# Altium schematic symbol library Hw_Lib.SchLib: 55 symbols (part 1 of 2)
Pins are listed as number, name and electrical type; pins without a type are passive.

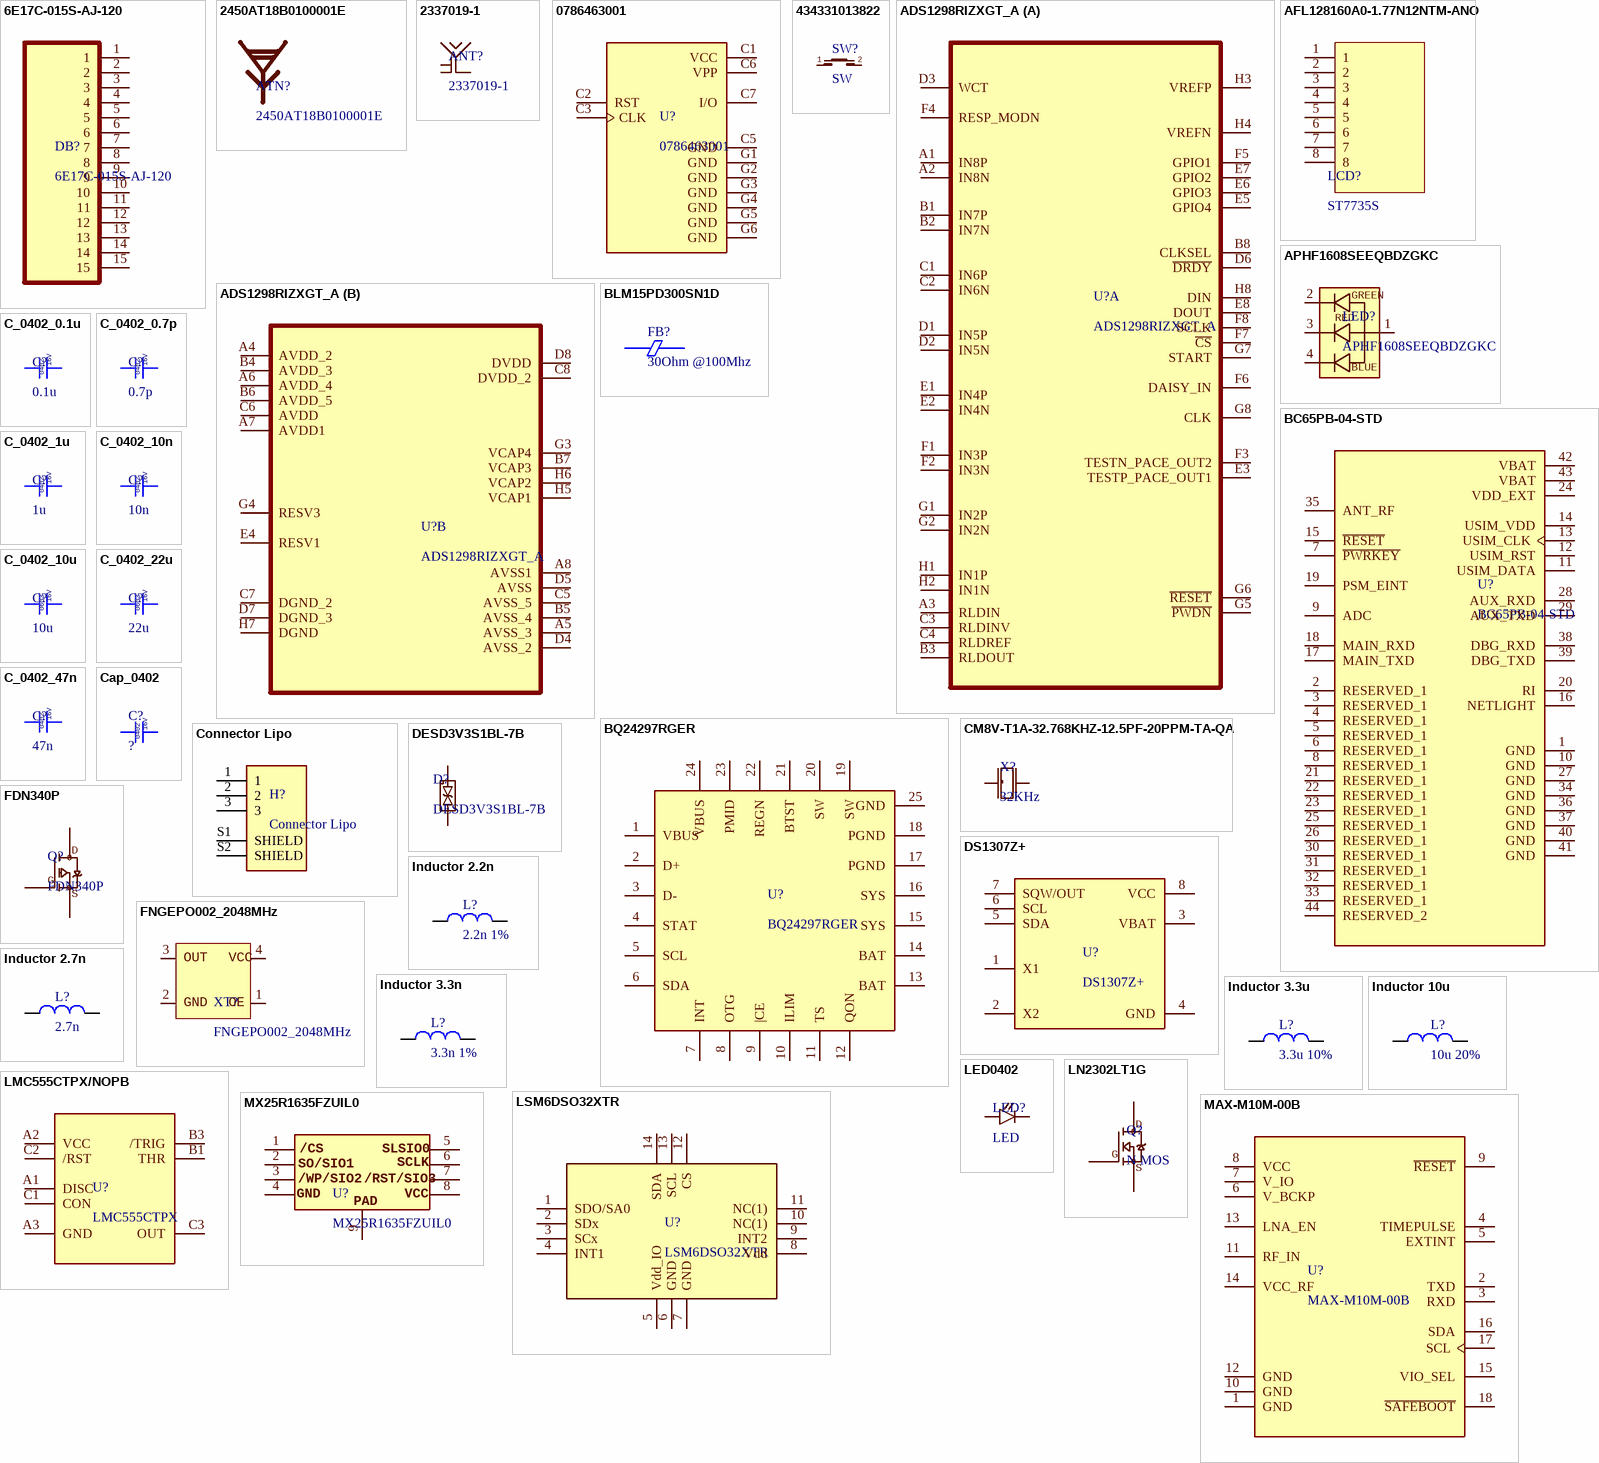
[diagram p0: symbols 6E17C-015S-AJ-120 to MX25R1635FZUIL0]

## 6E17C-015S-AJ-120
designator DB?
Conn D-Subminiature SKT 15 POS 2.74mm Solder RA Thru-Hole 15 Terminal 1 Port; Manufacturer: Amphenol Communications Solutions; Manufacturer Part Number: 6E17C015SAJ120; Supplier 1: Digikey; Supplier Part Number 1: 6E17C-015S-AJ-120-ND; Supplier: Digikey; Supplier Part Number: 6E17C-015S-AJ-120-ND; RoHS: No; Category: D-Sub Connectors; Stock: 1673; Pricing: 1=7.56, 10=6.839, 25=6.4604, 50=6.303, 100=5.9879, 250=5.35756, 450=5.0424, 950=4.41211 (USD)
footprint 6E17C-015S-AJ-120 (15 Position D-Sub Receptacle, Female Sockets Connector)
pins: 1, 2, 3, 4, 5, 6, 7, 8, 9, 10, 11, 12, 13, 14, 15

## 2450AT18B0100001E
designator ATN?
Rf Ant 2.4GHZ Chip Solder SMD; Manufacturer: Johanson; Supplier 1: Digikey; Supplier Part Number 1: 712-2450AT18B0100001ECT-ND; Supplier: Digikey; Supplier Part Number: 712-2450AT18B0100001ECT-ND; Manufacturer Part Number: 2450AT18B0100001E; RoHS: No; Category: RF Antennas; Stock: 16167; Pricing: 1=1.02, 10=0.637, 25=0.534, 100=0.4175, 250=0.36032, 500=0.32526, 1000=0.29604 (USD)
footprint 2450AT18B0100001E
pins: 1

## 2337019-1
designator ANT?
RF Connector, 1 Contact(s), Male, Board Mount, Receptacle; Manufacturer: TE Connectivity; Supplier 1: Digikey; Supplier Part Number 1: A144746CT-ND; Supplier: Digikey; Supplier Part Number: A144746CT-ND; Manufacturer Part Number: 2337019-1; RoHS: Yes; Category: RF / Coaxial Connectors; Stock: 77957; Pricing: 1=0.23, 10=0.196, 25=0.1828, 50=0.1732, 100=0.1638, 250=0.15252, 500=0.14374, 1000=0.13621, 2500=0.12617 (USD); ComponentLink1URL: https://datasheet.ciiva.com:443/pdfs/VipMasterIC/IC/TYEL/TYEL-S-A0008124473/TYEL-S-A0008124473-1.pdf?src-supplier=IHS+Markit; ComponentLink1Description: https://datasheet.ciiva.com:443/pdfs/VipMasterIC/IC/TYEL/TYEL-S-A0008124473/TYEL-S-A0008124473-1.pdf?src-supplier=IHS+Markit; ComponentLink2URL: https://www.te.com/commerce/DocumentDelivery/DDEController?Action=srchrtrv&amp;DocNm=C-2337019&amp;DocType=Customer+Drawing&amp;DocLang=English&src-supplier=Digikey; ComponentLink2Description: https://www.te.com/commerce/DocumentDelivery/DDEController?Action=srchrtrv&amp;DocNm=C-2337019&amp;DocType=Customer+Drawing&amp;DocLang=English&src-supplier=Digikey
footprint 2337019-1 (U.FL (UMCC) Connector Receptacle, Male Pin 50 Ohms Surface Mount Solder)
pins: 1, G1 GND (oc), G2 GND (oc)

## 0786463001
designator U?
PCB Connector; Manufacturer: Molex; Manufacturer Series: 78646; Supplier: Digikey; Supplier Part Number: WM9364CT-ND; Manufacturer Part Number: 0786463001; RoHS: Yes; Stock: 215355; Pricing: 1=0.89, 10=0.737, 100=0.6142 (USD); Contact Finish - Mating: NOT SPECIFIED; Connector Type: PCB; Reach SVHC Compliant: Yes; RoHS Compliant: Yes; ComponentLink1URL: https://datasheet.ciiva.com:443/pdfs/VipMasterIC/IC/MOLE/MOLE-S-A0006767587/MOLE-S-A0006867848-1.pdf?src-supplier=IHS+Markit; ComponentLink1Description: https://datasheet.ciiva.com:443/pdfs/VipMasterIC/IC/MOLE/MOLE-S-A0006767587/MOLE-S-A0006867848-1.pdf?src-supplier=IHS+Markit; Supplier 1: Digikey; Supplier Part Number 1: WM9364CT-ND
footprint 0786463001 (6 Position Card Connector Micro SIM Surface Mount, Right Angle Gold)
pins: C1 VCC (oc), C2 RST (oc), C3 CLK (oc), C5 GND (oc), C6 VPP (oc), C7 I/O (oc), G1 GND (oc), G2 GND (oc), G3 GND (oc), G4 GND (oc), G5 GND (oc), G6 GND (oc)

## 434331013822
designator SW?, comment SW
Keypad Switch, 1 Switches, SPST, Momentary-tactile, 0.05A, 12VDC, 2.94N, Solder Terminal, Surface Mount-right Angle; Manufacturer: Wurth Electronics; Manufacturer Part Number: 434331013822; Actuator Type: STEM; Circuit Configuration: 1X1; Contact Bounce Time-Max: 10ms; Contact Current(DC)-Max: 50mA; Contact DC Max Rating R Load: .05A@12VDC; Contact Voltage(DC)-Max: 12V; Number of Switches: 1; Body Breadth: 2.9inch; Body Height: 1.35mm; Body Length or Diameter: 3.5mm; Supplier 1: Digikey; Supplier Part Number 1: 732-10144-1-ND; Supplier: Digikey; Supplier Part Number: 732-10144-1-ND; RoHS: Yes; Category: Tactile Switches; Stock: 20409; Pricing: 1=0.62, 100=0.527, 500=0.453, 1000=0.38 (USD); Mounting Technology: Surface Mount; Min Operating Temperature: -40°C; Max Operating Temperature: 85°C; Operating Force-Max: 2.94N; Packaging: Tape and Reel; Switch Action: MOMENTARY-TACTILE; Switch Function: SPST; Switch Type: Keypad; Termination: Solder; Reach SVHC Compliant: Yes; RoHS Compliant: No; ComponentLink1URL: https://datasheet.ciiva.com:443/pdfs/VipMasterIC/IC/MIDC/MIDC-S-A0007332294/MIDC-S-A0007332282-1.pdf?src-supplier=IHS+Markit; ComponentLink1Description: https://datasheet.ciiva.com:443/pdfs/VipMasterIC/IC/MIDC/MIDC-S-A0007332294/MIDC-S-A0007332282-1.pdf?src-supplier=IHS+Markit; ComponentLink2URL: https://katalog.we-online.de/em/datasheet/434331013822.pdf?src-supplier=Digikey; ComponentLink2Description: https://katalog.we-online.de/em/datasheet/434331013822.pdf?src-supplier=Digikey
footprint 434331013822
pins: 1, 2

## ADS1298RIZXGT_A
designator U?
Analog Circuit, 1 Func, 8 Channel, PBGA64; Manufacturer: Texas Instruments; Package Body Material: Plastic; Channels: 1; Max Supply Voltage: 5.25V; Min Supply Voltage: 2.7V; Nominal Supply Voltage: 3V; Qualification Status: Not Qualified; Supplier 1: Digikey; Supplier Part Number 1: 4823-NRF5340-CLAA-RCT-ND; Supplier: Digikey; Supplier Part Number: 296-28273-1-ND; Manufacturer Part Number: ADS1298RIZXGT; RoHS: Yes; Category: Analog to Digital Converters (ADCs); Stock: 126; Pricing: 1=44.11, 10=33.755, 25=31.1068, 100=28.1554 (USD); Case/Package: LFBGA; Pins: 64; Package Shape: Square; Terminal Finish: Copper; Min Operating Temperature: -40°C; Max Operating Temperature: 85°C; JESD-609 Code: e1; Throw Configuration: ANALOG CIRCUIT; Moisture Sensitivity Level: 3; Package Style: GRID ARRAY, LOW PROFILE, FINE PITCHMeter; Peak Reflow Temperature (Cel): 260°C; Surface Mount: Yes; Terminal Form: Ball; Terminal Position: BOTTOM; Length: 8mm; Width: 8mm; Height - Seated (Max): 1.45mm; Terminal Pitch: 0.8mm; Temperature Grade: INDUSTRIAL; Reach SVHC Compliant: Yes; RoHS Compliant: Yes; ComponentLink1URL: https://www.ti.com:443/lit/ds/symlink/ads1294.pdf?src-supplier=IHS+Markit; ComponentLink1Description: https://www.ti.com:443/lit/ds/symlink/ads1294.pdf?src-supplier=IHS+Markit; ComponentLink2URL: https://datasheet.ciiva.com/1254/ads1294r-1254022.pdf?src-supplier=Digikey; ComponentLink2Description: https://datasheet.ciiva.com/1254/ads1294r-1254022.pdf?src-supplier=Digikey; ComponentLink3URL: https://datasheet.ciiva.com/1254/ads1294r-1254023.pdf?src-supplier=Digikey; ComponentLink3Description: https://datasheet.ciiva.com/1254/ads1294r-1254023.pdf?src-supplier=Digikey; ComponentLink4URL: https://datasheet.ciiva.com/1254/ads1294r-1254024.pdf?src-supplier=Digikey; ComponentLink4Description: https://datasheet.ciiva.com/1254/ads1294r-1254024.pdf?src-supplier=Digikey; ComponentLink5URL: https://datasheet.ciiva.com/5777/ads1296-5777151.pdf?src-supplier=Farnell; ComponentLink5Description: https://datasheet.ciiva.com/5777/ads1296-5777151.pdf?src-supplier=Farnell; ComponentLink6URL: https://datasheet.ciiva.com/7988/1796012-7988957.pdf?src-supplier=Element14; ComponentLink6Description: https://datasheet.ciiva.com/7988/1796012-7988957.pdf?src-supplier=Element14; ComponentLink7URL: https://datasheet.ciiva.com/15151/getdatasheetpartid-324164-15151959.pdf?src-supplier=Verical; ComponentLink7Description: https://datasheet.ciiva.com/15151/getdatasheetpartid-324164-15151959.pdf?src-supplier=Verical
footprint ADS1298RIZXGT (8 Channel AFE 24 Bit 14.1 mW 64-NFBGA (8x8))
part A pins: A1 IN8P (oc), A2 IN8N (oc), A3 RLDIN (oc), B1 IN7P (oc), B2 IN7N (oc), B3 RLDOUT (oc), B8 CLKSEL (oc), C1 IN6P (oc), C2 IN6N (oc), C3 RLDINV (oc), C4 RLDREF (oc), D1 IN5P (oc), D2 IN5N (oc), D3 WCT (oc), D6 ~{DRDY} (oc), E1 IN4P (oc), E2 IN4N (oc), E3 TESTP_PACE_OUT1 (oc), E5 GPIO4 (oc), E6 GPIO3 (oc), E7 GPIO2 (oc), E8 DOUT (oc), F1 IN3P (oc), F2 IN3N (oc), F3 TESTN_PACE_OUT2 (oc), F4 RESP_MODN (oc), F5 GPIO1 (oc), F6 DAISY_IN (oc), F7 ~{CS} (oc), F8 SCLK (oc), G1 IN2P (oc), G2 IN2N (oc), G5 ~{PWDN} (oc), G6 ~{RESET} (oc), G7 START (oc), G8 CLK (oc), H1 IN1P (oc), H2 IN1N (oc), H3 VREFP (oc), H4 VREFN (oc), H8 DIN (oc)
part B pins: A4 AVDD_2 (oc), A5 AVSS_3 (oc), A6 AVDD_4 (oc), A7 AVDD1 (oc), A8 AVSS1 (oc), B4 AVDD_3 (oc), B5 AVSS_4 (oc), B6 AVDD_5 (oc), B7 VCAP3 (oc), C5 AVSS_5 (oc), C6 AVDD (oc), C7 DGND_2 (oc), C8 DVDD_2 (oc), D4 AVSS_2 (oc), D5 AVSS (oc), D7 DGND_3 (oc), D8 DVDD (oc), E4 RESV1 (oc), G3 VCAP4 (oc), G4 RESV3 (oc), H5 VCAP1 (oc), H6 VCAP2 (oc), H7 DGND (oc)

## AFL128160A0-1.77N12NTM-ANO
designator LCD?, comment ST7735S
1.77'' Arduino Tn Tft 128160 Spi; Manufacturer: Orient; Manufacturer Part Number: AFL128160A0-1.77N12NTM-ANO; Supplier 1: Digikey; Supplier Part Number 1: 5491-AFL128160A0-1.77N12NTM-ANO-ND; Supplier: Digikey; Supplier Part Number: 5491-AFL128160A0-1.77N12NTM-ANO-ND; RoHS: No; Category: Optoelectronics; Stock: 5; Pricing: 1=12.86, 10=9.704, 100=8.151, 500=7.48562, 1000=7.06975 (USD)
pins: 1, 2, 3, 4, 5, 6, 7, 8

## APHF1608SEEQBDZGKC
designator LED?
Triple Color LED, Hyper Red/green/blue, Water Clear, 1.6mm; Manufacturer: Kingbright; Supplier 1: Digikey; Supplier Part Number 1: 754-2144-1-ND; Supplier 2: Digikey; Supplier Part Number 2: 754-2144-2-ND; Supplier: Mouser; Supplier Part Number: 604-APHF1608QBDZGKC; Manufacturer Part Number: APHF1608SEEQBDZGKC; RoHS: Yes; Category: LEDs; Stock: 1314; Pricing: 1=0.68, 10=0.444, 50=0.444, 100=0.291, 1000=0.221, 10000=0.209 (USD); Optoelectronic Device Type: TRIPLE COLOR LED; Reach SVHC Compliant: Yes; RoHS Compliant: Yes; ComponentLink1URL: https://datasheet.ciiva.com:443/pdfs/VipMasterIC/IC/KBEC/KBEC-S-A0008947180/KBEC-S-A0008953389-1.pdf?src-supplier=IHS+Markit; ComponentLink1Description: https://datasheet.ciiva.com:443/pdfs/VipMasterIC/IC/KBEC/KBEC-S-A0008947180/KBEC-S-A0008953389-1.pdf?src-supplier=IHS+Markit; ComponentLink2URL: http://www.kingbrightusa.com/images/catalog/SPEC/APHF1608SEEQBDZGKC.pdf?src-supplier=Digikey; ComponentLink2Description: http://www.kingbrightusa.com/images/catalog/SPEC/APHF1608SEEQBDZGKC.pdf?src-supplier=Digikey
footprint APHF1608SEEQBDZGKC
pins: 1 (oc), 2 (oc), 3 (oc), 4 (oc)
text: GREEN; RED; BLUE

## BC65PB-04-STD
designator U?
Compact NB-IoT Module with Ultra-low Power Consumption for Quectel GSM/GPRS M66/NB-IoT BC66/BC66-NA/BC68 LCC; Manufacturer: Quectel Wireless Solutions; Supplier: Digikey; Supplier Part Number: 2958-BC65PB-04-STDCT-ND; Manufacturer Part Number: BC65PB-04-STD; RoHS: No; Stock: 1260; Pricing: 1=8.4, 10=7.7, 25=7, 100=6.3 (USD); ComponentLink1URL: https://datasheet.octopart.com/BC65PB-04-STD-Quectel-datasheet-163886004.pdf?src-supplier=SOS+electronic; ComponentLink1Description: https://datasheet.octopart.com/BC65PB-04-STD-Quectel-datasheet-163886004.pdf?src-supplier=SOS+electronic; Supplier 1: Digikey; Supplier Part Number 1: 2958-BC65PB-04-STDCT-ND
footprint BC65PB-04-STD (Cellular GPRS, GSM, LTE Transceiver Module Antenna Not Included Surface Mount)
pins: 1 GND (oc), 2 RESERVED_1 (oc), 3 RESERVED_1 (oc), 4 RESERVED_1 (oc), 5 RESERVED_1 (oc), 6 RESERVED_1 (oc), 7 ~{PWRKEY} (oc), 8 RESERVED_1 (oc), 9 ADC (oc), 10 GND (oc), 11 USIM_DATA (oc), 12 USIM_RST (oc), 13 USIM_CLK (oc), 14 USIM_VDD (oc), 15 ~{RESET} (oc), 16 NETLIGHT (oc), 17 MAIN_TXD (oc), 18 MAIN_RXD (oc), 19 PSM_EINT (oc), 20 RI (oc), 21 RESERVED_1 (oc), 22 RESERVED_1 (oc), 23 RESERVED_1 (oc), 24 VDD_EXT (oc), 25 RESERVED_1 (oc), 26 RESERVED_1 (oc), 27 GND (oc), 28 AUX_RXD (oc), 29 AUX_TXD (oc), 30 RESERVED_1 (oc), 31 RESERVED_1 (oc), 32 RESERVED_1 (oc), 33 RESERVED_1 (oc), 34 GND (oc), 35 ANT_RF (oc), 36 GND (oc), 37 GND (oc), 38 DBG_RXD (oc), 39 DBG_TXD (oc), 40 GND (oc), 41 GND (oc), 42 VBAT (oc), 43 VBAT (oc), 44 RESERVED_2 (oc)

## BLM15PD300SN1D
designator FB?, comment 30Ohm @100Mhz
Ferrite Chip, 1 Function(s), 1.4A, 2 Pin(s); Manufacturer: Murata; Manufacturer Part Number: BLM15PD300SN1D; DC Resistance-Max: 35mR; Clock Frequency: 100MHz; Channels: 1; Output Impedance: 30R; Supplier 1: Digikey; Supplier Part Number 1: 490-5200-1-ND; Supplier: Digikey; Supplier Part Number: 490-5200-6-ND; RoHS: Yes; Category: Ferrite Beads and Chips; Stock: 1685; Pricing: 1=0.1, 10=0.054, 25=0.0468, 50=0.042, 100=0.0376, 250=0.03236, 500=0.02884, 1000=0.02561, 5000=0.01905 (USD); Mounting Technology: Surface Mount; Material: Ferrite; Case Code: 0402; Terminal Finish: Tin; Min Operating Temperature: -55°C; Max Operating Temperature: 125°C; JESD-609 Code: e3; Construction: Chip Bead; Filter Type: FERRITE CHIP; Min Frequency: 100MHz; Packaging: Tape and Reel; Current Rating: 1.4A; Length: 1mm; Width: 0.5mm; Height: 0.5mm; Reach SVHC Compliant: Yes; RoHS Compliant: Yes; ComponentLink1URL: https://datasheet.ciiva.com:443/pdfs/VipMasterIC/IC/MURE/MURE-S-A0010009827/MURE-S-A0010009827-1.pdf?src-supplier=IHS+Markit; ComponentLink1Description: https://datasheet.ciiva.com:443/pdfs/VipMasterIC/IC/MURE/MURE-S-A0010009827/MURE-S-A0010009827-1.pdf?src-supplier=IHS+Markit; ComponentLink2URL: https://datasheet.ciiva.com/3854/l0110s0100blm15p-3854117.pdf?src-supplier=Arrow+Electronics; ComponentLink2Description: https://datasheet.ciiva.com/3854/l0110s0100blm15p-3854117.pdf?src-supplier=Arrow+Electronics; ComponentLink3URL: https://datasheet.ciiva.com/18093/getdatasheetpartid-150173-18093043.pdf?src-supplier=Verical; ComponentLink3Description: https://datasheet.ciiva.com/18093/getdatasheetpartid-150173-18093043.pdf?src-supplier=Verical; ComponentLink4URL: https://datasheet.ciiva.com/41425/001171687-da-01-en-chip-drossel0402-30r-2200ma-1-0x0-5mm-41425790.pdf?src-supplier=Conrad; ComponentLink4Description: https://datasheet.ciiva.com/41425/001171687-da-01-en-chip-drossel0402-30r-2200ma-1-0x0-5mm-41425790.pdf?src-supplier=Conrad; ComponentLink5URL: https://datasheet.ciiva.com/41449/001172206-da-01-en-drossel-0402-30r-21-0x0-5mm-10000st-41449493.pdf?src-supplier=Conrad; ComponentLink5Description: https://datasheet.ciiva.com/41449/001172206-da-01-en-drossel-0402-30r-21-0x0-5mm-10000st-41449493.pdf?src-supplier=Conrad; ComponentLink6URL: https://datasheet.ciiva.com/14122/blm-series-eng-tds-14122923.pdf?src-supplier=Distrelec; ComponentLink6Description: https://datasheet.ciiva.com/14122/blm-series-eng-tds-14122923.pdf?src-supplier=Distrelec; ComponentLink7URL: https://datasheet.ciiva.com/1012/l0110e-1012431.pdf?src-supplier=Digikey; ComponentLink7Description: https://datasheet.ciiva.com/1012/l0110e-1012431.pdf?src-supplier=Digikey; ComponentLink8URL: https://datasheet.ciiva.com/1012/l0110e-1012432.pdf?src-supplier=Digikey; ComponentLink8Description: https://datasheet.ciiva.com/1012/l0110e-1012432.pdf?src-supplier=Digikey; ComponentLink9URL: https://datasheet.ciiva.com/1012/l0110e-1012433.pdf?src-supplier=Digikey; ComponentLink9Description: https://datasheet.ciiva.com/1012/l0110e-1012433.pdf?src-supplier=Digikey
footprint FB0402 (30 Ohms @ 100 MHz 1 Power Line Ferrite Bead 0402 (1005 Metric) 2.2A 35mOhm)
pins: 1, 2

## BQ24297RGER
designator U?
Power Supply Management Circuit, Adjustable, 1 Channel, +6.4V, PQCC24; Manufacturer: Texas Instruments; Package Body Material: Plastic; Adjustable Threshold: Yes; Number of Channels: 1; Package Equivalence Code: LCC24,.16SQ,20; Power Supplies: 3.9/6.2V; Supply Current-Max (Isup): 3A; Max Supply Voltage: 6.2V; Min Supply Voltage: 3.9V; Nominal Supply Voltage: 5V; Qualification Status: Not Qualified; Supplier 1: Digikey; Supplier Part Number 1: 296-46072-1-ND; Supplier: Digikey; Supplier Part Number: 296-46072-1-ND; Manufacturer Part Number: BQ24297RGER; RoHS: Yes; Category: Battery Management; Stock: 17491; Pricing: 1=2.71, 10=2.433, 25=2.3004, 100=1.9937, 250=1.89144, 500=1.8 (USD); Case/Package: HVQCCN; Pins: 24; Package Shape: Square; Terminal Finish: Nickel; Min Operating Temperature: -40°C; Max Operating Temperature: 85°C; JESD-609 Code: e4; Throw Configuration: POWER SUPPLY MANAGEMENT CIRCUIT; Moisture Sensitivity Level: 2; Channels: 1; Package Style: CHIP CARRIER, HEAT SINK/SLUG, VERY THIN PROFILEMeter; Peak Reflow Temperature (Cel): 260°C; Surface Mount: Yes; Terminal Form: No Lead; Terminal Position: QUAD; Length: 4mm; Width: 4mm; Height - Seated (Max): 1mm; Terminal Pitch: 0.5mm; Temperature Grade: INDUSTRIAL; Reach SVHC Compliant: Yes; RoHS Compliant: Yes; ComponentLink1URL: https://www.ti.com:443/lit/ds/symlink/bq24296.pdf?src-supplier=IHS+Markit; ComponentLink1Description: https://www.ti.com:443/lit/ds/symlink/bq24296.pdf?src-supplier=IHS+Markit; ComponentLink2URL: https://datasheet.ciiva.com/30000/bq24296-30000397.pdf?src-supplier=Avnet; ComponentLink2Description: https://datasheet.ciiva.com/30000/bq24296-30000397.pdf?src-supplier=Avnet
footprint BQ24297RGER (Charger IC Lithium Ion/Polymer 24-VQFN (4x4))
pins: 1 VBUS, 2 D+, 3 D-, 4 STAT, 5 SCL, 6 SDA, 7 INT, 8 OTG, 9 |CE, 10 ILIM, 11 TS, 12 QON, 13 BAT, 14 BAT, 15 SYS, 16 SYS, 17 PGND, 18 PGND, 19 SW, 20 SW, 21 BTST, 22 REGN, 23 PMID, 24 VBUS, 25 GND

## C_0402_0.1u
designator C?, comment 0.1u
Ceramic Capacitor, Multilayer, Ceramic, 16V, 10% +Tol, 10% -Tol, X7R, 15% TC, 0.1uF, Surface Mount, 0402; Manufacturer: Murata; Manufacturer Part Number: GRM155R71C104KA88J; Value: 100nF; Multilayer: Yes; Supplier: Digikey; Supplier Part Number: 490-6328-1-ND; RoHS: Yes; Category: Ceramic Capacitors; Stock: 19409569; Pricing: 1=0.1, 10=0.019, 50=0.011, 100=0.0086, 500=0.00646, 1000=0.00508, 2500=0.00462, 5000=0.00425 (USD); Mounting Technology: Surface Mount; Pins: 2; Dielectric Material: Ceramic; Package Shape: Rectangular; Case/Package: 0402; Terminal Finish: Nickel; Min Operating Temperature: -55°C; Max Operating Temperature: 125°C; JESD-609 Code: e3; Capacitor Type: Ceramic; Tolerance  (fill in as +-): 10%; Package Style: SMTMeter; Packaging: Tape and Reel; Tolerance (fill in as +-): 10%; Rated DC Voltage (URdc): 16V; Temperature Characteristics Code: X7R; Termination: Wraparound; Length: 1mm; Width: 0.5mm; Height: 0.5mm; Reach SVHC Compliant: Yes; RoHS Compliant: Yes; ComponentLink1URL: https://psearch.en.murata.com:443/capacitor/product/GRM155R71C104KA88%23.pdf?src-supplier=IHS+Markit; ComponentLink1Description: https://psearch.en.murata.com:443/capacitor/product/GRM155R71C104KA88%23.pdf?src-supplier=IHS+Markit; ComponentLink2URL: https://datasheet.ciiva.com/6271/product-6271168.pdf?src-supplier=Digikey; ComponentLink2Description: https://datasheet.ciiva.com/6271/product-6271168.pdf?src-supplier=Digikey; ComponentLink3URL: https://datasheet.ciiva.com/6271/grm155r71c104ka88-01-6271231.pdf?src-supplier=Digikey; ComponentLink3Description: https://datasheet.ciiva.com/6271/grm155r71c104ka88-01-6271231.pdf?src-supplier=Digikey
footprint CAP0402 (0.1 µF ±10% 16V Ceramic Capacitor X7R 0402 (1005 Metric))
pins: 1, 2

## C_0402_0.7p
designator C?, comment 0.7p
Ceramic Capacitor, Multilayer, Ceramic, 50V, 7.14% +Tol, 7.14% -Tol, C0G, 30ppm/Cel TC, 0.0000007uF, Surface Mount, 0402; Manufacturer: Murata; Manufacturer Part Number: GJM1555C1HR70WB01D; Value: 0.7pF; Multilayer: Yes; Supplier: Digikey; Supplier Part Number: 490-11252-1-ND; RoHS: Yes; Category: Ceramic Capacitors; Stock: 178737; Pricing: 1=0.18, 10=0.122, 50=0.073, 100=0.0574, 500=0.04242, 1000=0.03511, 2500=0.03268, 5000=0.0299 (USD); Mounting Technology: Surface Mount; Pins: 2; Dielectric Material: Ceramic; Package Shape: Rectangular; Case/Package: 0402; Terminal Finish: Nickel; Min Operating Temperature: -55°C; Max Operating Temperature: 125°C; JESD-609 Code: e3; Capacitor Type: Ceramic; Tolerance  (fill in as +-): 7.14%; Package Style: SMTMeter; Packaging: Tape and Reel; Tolerance (fill in as +-): 7.14%; Rated DC Voltage (URdc): 50V; Temperature Characteristics Code: C0G; Termination: Wraparound; Length: 1mm; Width: 0.5mm; Height: 0.5mm; Reach SVHC Compliant: Yes; RoHS Compliant: Yes; ComponentLink1URL: https://datasheet.ciiva.com:443/pdfs/VipMasterIC/IC/MURE/MURE-S-A0004378008/MURE-S-A0004383522-1.pdf?src-supplier=IHS+Markit; ComponentLink1Description: https://datasheet.ciiva.com:443/pdfs/VipMasterIC/IC/MURE/MURE-S-A0004378008/MURE-S-A0004383522-1.pdf?src-supplier=IHS+Markit; ComponentLink2URL: https://datasheet.ciiva.com/170/product-170099.pdf?src-supplier=Digikey; ComponentLink2Description: https://datasheet.ciiva.com/170/product-170099.pdf?src-supplier=Digikey; ComponentLink3URL: https://datasheet.ciiva.com/2989/product-2989256.pdf?src-supplier=Avnet; ComponentLink3Description: https://datasheet.ciiva.com/2989/product-2989256.pdf?src-supplier=Avnet
footprint CAP0402 (0.1 µF ±10% 16V Ceramic Capacitor X7R 0402 (1005 Metric))
pins: 1, 2
text: 16V

## C_0402_1u
designator C?, comment 1u
Ceramic Capacitor, Multilayer, Ceramic, 16V, 10% +Tol, 10% -Tol, X5R, 15% TC, 1uF, Surface Mount, 0402; Manufacturer: Taiyo Yuden; Manufacturer Part Number: EMK105BJ105KV-F; Multilayer: Yes; Supplier: Digikey; Supplier Part Number: 587-2477-1-ND; RoHS: Yes; Category: Ceramic Capacitors; Stock: 2709915; Pricing: 1=0.1, 10=0.045, 50=0.031, 100=0.0266, 500=0.01912, 1000=0.01682, 2500=0.01437, 5000=0.01289 (USD); Mounting Technology: Surface Mount; Pins: 2; Dielectric Material: Ceramic; Package Shape: Rectangular; Case/Package: 0402; Terminal Finish: Nickel; Min Operating Temperature: -55°C; Max Operating Temperature: 85°C; JESD-609 Code: e3; Value: 1uF; Capacitor Type: Ceramic; Tolerance  (fill in as +-): 10%; Package Style: SMTMeter; Packaging: Tape and Reel; Tolerance (fill in as +-): 10%; Rated DC Voltage (URdc): 16V; Temperature Characteristics Code: X5R; Termination: Wraparound; Length: 1mm; Width: 0.5mm; Height: 0.5mm; Reach SVHC Compliant: Yes; RoHS Compliant: Yes; ComponentLink1URL: https://datasheet.ciiva.com:443/pdfs/VipMasterIC/IC/TAIY/TAIY-S-A0009096450/TAIY-S-A0009096597-1.pdf?src-supplier=IHS+Markit; ComponentLink1Description: https://datasheet.ciiva.com:443/pdfs/VipMasterIC/IC/TAIY/TAIY-S-A0009096450/TAIY-S-A0009096597-1.pdf?src-supplier=IHS+Markit; ComponentLink2URL: https://datasheet.ciiva.com/134/emk105bj105kv-f-ss-134209.pdf?src-supplier=Digikey; ComponentLink2Description: https://datasheet.ciiva.com/134/emk105bj105kv-f-ss-134209.pdf?src-supplier=Digikey; ComponentLink3URL: https://datasheet.ciiva.com/15920/964emk105bj105kv-f-15920402.pdf?src-supplier=Onlinecomponents.com; ComponentLink3Description: https://datasheet.ciiva.com/15920/964emk105bj105kv-f-15920402.pdf?src-supplier=Onlinecomponents.com; ComponentLink4URL: https://datasheet.ciiva.com/26871/getdatasheetpartid-638287-26871289.pdf?src-supplier=Verical; ComponentLink4Description: https://datasheet.ciiva.com/26871/getdatasheetpartid-638287-26871289.pdf?src-supplier=Verical; ComponentLink5URL: https://datasheet.ciiva.com/30259/265emk105bj105kv-f-30259872.pdf?src-supplier=Onlinecomponents.com; ComponentLink5Description: https://datasheet.ciiva.com/30259/265emk105bj105kv-f-30259872.pdf?src-supplier=Onlinecomponents.com; ComponentLink6URL: https://datasheet.ciiva.com/7657/1497285-7657320.pdf?src-supplier=Element14; ComponentLink6Description: https://datasheet.ciiva.com/7657/1497285-7657320.pdf?src-supplier=Element14; ComponentLink7URL: https://datasheet.ciiva.com/22694/1497285-22694239.pdf?src-supplier=Element14; ComponentLink7Description: https://datasheet.ciiva.com/22694/1497285-22694239.pdf?src-supplier=Element14; ComponentLink8URL: https://datasheet.ciiva.com/5424/mlcc01-e-5424190.pdf?src-supplier=Mouser; ComponentLink8Description: https://datasheet.ciiva.com/5424/mlcc01-e-5424190.pdf?src-supplier=Mouser
footprint CAP0402 (0.1 µF ±10% 16V Ceramic Capacitor X7R 0402 (1005 Metric))
pins: 1, 2

## C_0402_10n
designator C?, comment 10n
Ceramic Capacitor, Multilayer, Ceramic, 16V, 10% +Tol, 10% -Tol, X7R, 15% TC, 0.01uF, Surface Mount, 0402; Manufacturer: Murata; Manufacturer Part Number: GRM155R71C103KA01D; Value: 10nF; Multilayer: Yes; Supplier: Digikey; Supplier Part Number: 490-1313-1-ND; RoHS: Yes; Category: Ceramic Capacitors; Stock: 11195634; Pricing: 1=0.1, 10=0.019, 50=0.011, 100=0.0086, 500=0.00646, 1000=0.00508, 2500=0.00462, 5000=0.00425, 10000=0.00388, 20000=0.00369, 30000=0.00351, 50000=0.00325 (USD); Mounting Technology: Surface Mount; Pins: 2; Dielectric Material: Ceramic; Package Shape: Rectangular; Case/Package: 0402; Terminal Finish: Nickel; Min Operating Temperature: -55°C; Max Operating Temperature: 125°C; JESD-609 Code: e3; Capacitor Type: Ceramic; Tolerance  (fill in as +-): 10%; Package Style: SMTMeter; Packaging: Tape and Reel; Tolerance (fill in as +-): 10%; Rated DC Voltage (URdc): 16V; Temperature Characteristics Code: X7R; Termination: Wraparound; Length: 1mm; Width: 0.5mm; Height: 0.5mm; Reach SVHC Compliant: Yes; RoHS Compliant: Yes; ComponentLink1URL: https://datasheet.ciiva.com:443/pdfs/VipMasterIC/IC/MURE/MURE-S-A0008911298/MURE-S-A0008911430-1.pdf?src-supplier=IHS+Markit; ComponentLink1Description: https://datasheet.ciiva.com:443/pdfs/VipMasterIC/IC/MURE/MURE-S-A0008911298/MURE-S-A0008911430-1.pdf?src-supplier=IHS+Markit; ComponentLink2URL: https://datasheet.ciiva.com/129/partnumbering-e-01-129775.pdf?src-supplier=Digikey; ComponentLink2Description: https://datasheet.ciiva.com/129/partnumbering-e-01-129775.pdf?src-supplier=Digikey; ComponentLink3URL: https://datasheet.ciiva.com/129/partnumbering-e-01-129774.pdf?src-supplier=Digikey; ComponentLink3Description: https://datasheet.ciiva.com/129/partnumbering-e-01-129774.pdf?src-supplier=Digikey; ComponentLink4URL: https://datasheet.ciiva.com/129/product-129776.pdf?src-supplier=Digikey; ComponentLink4Description: https://datasheet.ciiva.com/129/product-129776.pdf?src-supplier=Digikey; ComponentLink5URL: https://datasheet.ciiva.com/18184/getdatasheetpartid-178863-18184649.pdf?src-supplier=Verical; ComponentLink5Description: https://datasheet.ciiva.com/18184/getdatasheetpartid-178863-18184649.pdf?src-supplier=Verical; ComponentLink6URL: https://datasheet.ciiva.com/7937/608985-7937614.pdf?src-supplier=Element14; ComponentLink6Description: https://datasheet.ciiva.com/7937/608985-7937614.pdf?src-supplier=Element14; ComponentLink7URL: https://datasheet.ciiva.com/22698/608985-22698415.pdf?src-supplier=Element14; ComponentLink7Description: https://datasheet.ciiva.com/22698/608985-22698415.pdf?src-supplier=Element14
footprint CAP0402 (0.1 µF ±10% 16V Ceramic Capacitor X7R 0402 (1005 Metric))
pins: 1, 2

## C_0402_10u
designator C?, comment 10u
Ceramic Capacitor, Multilayer, Ceramic, 16V, 20% +Tol, 20% -Tol, X5R, 15% TC, 10uF, Surface Mount, 0603; Manufacturer: Murata; Manufacturer Part Number: GRT188R61C106ME13D; Multilayer: Yes; Reference Standard: AEC-Q200; Supplier: Digikey; Supplier Part Number: 490-12318-1-ND; RoHS: Yes; Category: Ceramic Capacitors; Stock: 232325; Pricing: 1=0.24, 10=0.158, 50=0.1162, 100=0.0947, 500=0.07476, 1000=0.06313 (USD); Mounting Technology: Surface Mount; Pins: 2; Dielectric Material: Ceramic; Package Shape: Rectangular; Case/Package: 0603; Terminal Finish: Nickel; Min Operating Temperature: -55°C; Max Operating Temperature: 85°C; JESD-609 Code: e3; Value: 10uF; Capacitor Type: Ceramic; Tolerance  (fill in as +-): 20%; Packaging: Tape and Reel; Tolerance (fill in as +-): 20%; Rated DC Voltage (URdc): 16V; Temperature Characteristics Code: X5R; Termination: Wraparound; Reach SVHC Compliant: Yes; RoHS Compliant: Yes; ComponentLink1URL: https://datasheet.ciiva.com:443/pdfs/VipMasterIC/IC/MURE/MURE-S-A0004410517/MURE-S-A0004413840-1.pdf?src-supplier=IHS+Markit; ComponentLink1Description: https://datasheet.ciiva.com:443/pdfs/VipMasterIC/IC/MURE/MURE-S-A0004410517/MURE-S-A0004413840-1.pdf?src-supplier=IHS+Markit; ComponentLink2URL: http://search.murata.co.jp/Ceramy/image/img/A01X/G101/ENG/GRT188R61C106ME13-01.pdf?src-supplier=Digikey; ComponentLink2Description: http://search.murata.co.jp/Ceramy/image/img/A01X/G101/ENG/GRT188R61C106ME13-01.pdf?src-supplier=Digikey
footprint CAP0603
pins: 1, 2

## C_0402_22u
designator C?, comment 22u
Ceramic Capacitor, Multilayer, Ceramic, 16V, 20% +Tol, 20% -Tol, X5R, 15% TC, 22uF, Surface Mount, 0603; Manufacturer: Samsung; Manufacturer Part Number: CL10A226MO7JZNC; Multilayer: Yes; Supplier: Digikey; Supplier Part Number: 1276-7076-1-ND; RoHS: Yes; Category: Ceramic Capacitors; Stock: 1046811; Pricing: 1=0.59, 10=0.398, 50=0.3164, 100=0.2614, 500=0.20418, 1000=0.17355, 4000=0.15314, 8000=0.14293, 12000=0.14038, 28000=0.13782 (USD); Mounting Technology: Surface Mount; Pins: 2; Dielectric Material: Ceramic; Package Shape: Rectangular; Case/Package: 0603; Min Operating Temperature: -55°C; Max Operating Temperature: 85°C; Value: 22uF; Capacitor Type: Ceramic; Tolerance  (fill in as +-): 20%; Packaging: Tape and Reel; Tolerance (fill in as +-): 20%; Rated DC Voltage (URdc): 16V; Temperature Characteristics Code: X5R; Termination: Wraparound; Reach SVHC Compliant: Yes; RoHS Compliant: Yes; ComponentLink1URL: https://datasheet.ciiva.com:443/pdfs/VipMasterIC/IC/SEMS/SEMS-S-A0008524842/SEMS-S-A0008524715-1.pdf?src-supplier=IHS+Markit; ComponentLink1Description: https://datasheet.ciiva.com:443/pdfs/VipMasterIC/IC/SEMS/SEMS-S-A0008524842/SEMS-S-A0008524715-1.pdf?src-supplier=IHS+Markit; ComponentLink2URL: http://www.samsungsem.com/kr/support/product-search/mlcc/CL10A226MO7JZNC.jsp?src-supplier=Digikey; ComponentLink2Description: http://www.samsungsem.com/kr/support/product-search/mlcc/CL10A226MO7JZNC.jsp?src-supplier=Digikey; ComponentLink3URL: https://datasheet.octopart.com/CL10A226MO7JZNC-Samsung-Electro-Mechanics-datasheet-149156497.pdf?src-supplier=Future+Electronics; ComponentLink3Description: https://datasheet.octopart.com/CL10A226MO7JZNC-Samsung-Electro-Mechanics-datasheet-149156497.pdf?src-supplier=Future+Electronics
footprint CAP0603
pins: 1, 2

## C_0402_47n
designator C?, comment 47n
Ceramic Capacitor, Multilayer, Ceramic, 16V, 10% +Tol, 10% -Tol, X7R, 15% TC, 0.047uF, Surface Mount, 0402; Manufacturer: Murata; Manufacturer Part Number: GCM155R71C473KA37D; Value: 47nF; Multilayer: Yes; Reference Standard: AEC-Q200; Supplier: Digikey; Supplier Part Number: 490-6042-1-ND; RoHS: Yes; Category: Ceramic Capacitors; Stock: 703056; Pricing: 1=0.1, 10=0.031, 50=0.018, 100=0.0139, 500=0.01046, 1000=0.00821, 2500=0.00747, 5000=0.00687 (USD); Mounting Technology: Surface Mount; Pins: 2; Dielectric Material: Ceramic; Package Shape: Rectangular; Case/Package: 0402; Terminal Finish: Nickel; Min Operating Temperature: -55°C; Max Operating Temperature: 125°C; JESD-609 Code: e3; Capacitor Type: Ceramic; Tolerance  (fill in as +-): 10%; Package Style: SMTMeter; Packaging: Tape and Reel; Tolerance (fill in as +-): 10%; Rated DC Voltage (URdc): 16V; Temperature Characteristics Code: X7R; Termination: Wraparound; Length: 1mm; Width: 0.5mm; Height: 0.55mm; Reach SVHC Compliant: Yes; RoHS Compliant: Yes; ComponentLink1URL: https://datasheet.ciiva.com:443/pdfs/VipMasterIC/IC/MURE/MURE-S-A0004370842/MURE-S-A0004373024-1.pdf?src-supplier=IHS+Markit; ComponentLink1Description: https://datasheet.ciiva.com:443/pdfs/VipMasterIC/IC/MURE/MURE-S-A0004370842/MURE-S-A0004373024-1.pdf?src-supplier=IHS+Markit; ComponentLink2URL: https://datasheet.ciiva.com/11607/product-11607786.pdf?src-supplier=Avnet; ComponentLink2Description: https://datasheet.ciiva.com/11607/product-11607786.pdf?src-supplier=Avnet; ComponentLink3URL: https://datasheet.ciiva.com/6270/s0717e-6270764.pdf?src-supplier=Digikey; ComponentLink3Description: https://datasheet.ciiva.com/6270/s0717e-6270764.pdf?src-supplier=Digikey; ComponentLink4URL: https://datasheet.ciiva.com/6270/s0717e-6270765.pdf?src-supplier=Digikey; ComponentLink4Description: https://datasheet.ciiva.com/6270/s0717e-6270765.pdf?src-supplier=Digikey; ComponentLink5URL: https://datasheet.ciiva.com/6270/s0717e-6270766.pdf?src-supplier=Digikey; ComponentLink5Description: https://datasheet.ciiva.com/6270/s0717e-6270766.pdf?src-supplier=Digikey
footprint CAP0402 (0.1 µF ±10% 16V Ceramic Capacitor X7R 0402 (1005 Metric))
pins: 1, 2

## Cap_0402
designator C?, comment ?
CAP CER 0.1UF 16V X7R 0402; Supplier 1: Digikey; Supplier Part Number 1: 490-6328-6-ND
footprint CAP0402 (0.1 µF ±10% 16V Ceramic Capacitor X7R 0402 (1005 Metric))
pins: 1, 2
text: 16V; 0402

## CM8V-T1A-32.768KHZ-12.5PF-20PPM-TA-QA
designator X?, comment 32KHz
CRYSTAL 32.7680KHZ 12.5PF SMD; Manufacturer: Micro Crystal; Manufacturer Part Number: CM8V-T1A-32.768KHZ-12.5PF-20PPM-TA-QA; Supplier: Digikey; Supplier Part Number: 2195-CM8V-T1A-32.768KHZ-12.5PF-20PPM-TA-QACT-ND; RoHS: No; Category: LDO; Stock: 22759; Pricing: 1=0.43, 10=0.366, 50=0.33, 100=0.3156, 500=0.28466 (USD); Supplier 1: Digikey; Supplier Part Number 1: 2195-CM8V-T1A-32.768KHZ-12.5PF-20PPM-TA-QACT-ND
footprint 32Khz
pins: 1, 2

## Connector Lipo
designator H?
CONN HEADER SH 3POS SIDE 1MM TIN; Manufacturer: JST; Manufacturer Part Number: SM03B-SRSS-TB(LF)(SN); Supplier: Farnell; Supplier Part Number: 1679118; RoHS: Yes; Category: Connectors; Stock: 153704; Pricing: 10=0.261, 100=0.194, 500=0.167, 1000=0.148, 2500=0.14, 5000=0.131 (GBP); ComponentLink1URL: https://datasheet.ciiva.com/26894/getdatasheetpartid-708885-26894671.pdf?src-supplier=Verical; ComponentLink1Description: https://datasheet.ciiva.com/26894/getdatasheetpartid-708885-26894671.pdf?src-supplier=Verical; ComponentLink2URL: https://datasheet.ciiva.com/16394/sm03b-srss-tblfsn-16394332.pdf?src-supplier=Future+Electronics; ComponentLink2Description: https://datasheet.ciiva.com/16394/sm03b-srss-tblfsn-16394332.pdf?src-supplier=Future+Electronics; ComponentLink3URL: https://datasheet.ciiva.com/8052/91630-8052263.pdf?src-supplier=Element14; ComponentLink3Description: https://datasheet.ciiva.com/8052/91630-8052263.pdf?src-supplier=Element14
footprint CON
pins: 1, 2, 3, S1 SHIELD, S2 SHIELD

## DESD3V3S1BL-7B
designator D?
Trans Voltage Suppressor Diode, 35W, 3.3V V(RWM), Bidirectional, 1 Element, Silicon; Manufacturer: Diodes; Package Body Material: Plastic; Max Breakdown Voltage: 6.5V; Min Breakdown Voltage: 3.8V; Number of Elements: 1; Max Power Dissipation: 250mW; Supplier 1: Digikey; Supplier Part Number 1: DESD3V3S1BL-7BDICT-ND; Supplier: Digikey; Supplier Part Number: DESD3V3S1BL-7BDICT-ND; Manufacturer Part Number: DESD3V3S1BL-7B; RoHS: Yes; Category: TVS Diodes; Stock: 1369752; Pricing: 1=0.22, 10=0.148, 100=0.0722, 500=0.0602, 1000=0.04182, 2000=0.03625, 5000=0.03362, 10000=0.0302, 20000=0.02888 (USD); Pins: 2; Diode Element Material: SILICON; Package Shape: Rectangular; Terminal Finish: Nickel; Min Operating Temperature: -65°C; Max Operating Temperature: 150°C; JESD-609 Code: e4; Polarity: Bidirectional; Diode Type: TRANS VOLTAGE SUPPRESSOR; Moisture Sensitivity Level: 1; Non-rep Peak Rev Power Dis-Max: 35W; Package Style: CHIP CARRIERMeter; Rep Pk Reverse Voltage-Max: 3.3V; Surface Mount: Yes; Technology: AVALANCHE; Terminal Form: No Lead; Terminal Position: BOTTOM; Reach SVHC Compliant: Yes; RoHS Compliant: Yes; ComponentLink1URL: https://datasheet.ciiva.com:443/pdfs/VipMasterIC/IC/DIOD/DIOD-S-A0005045876/DIOD-S-A0005045876-1.pdf?src-supplier=IHS+Markit; ComponentLink1Description: https://datasheet.ciiva.com:443/pdfs/VipMasterIC/IC/DIOD/DIOD-S-A0005045876/DIOD-S-A0005045876-1.pdf?src-supplier=IHS+Markit; ComponentLink2URL: https://datasheet.ciiva.com/48480/desd3v3s1bl-48480026.pdf?src-supplier=Avnet; ComponentLink2Description: https://datasheet.ciiva.com/48480/desd3v3s1bl-48480026.pdf?src-supplier=Avnet
footprint DESD3V3S1BL-7B (7V Clamp 5A (8/20µs) Ipp Tvs Diode Surface Mount X1-DFN1006-2)
pins: 1, 2

## DS1307Z+
designator U?
Real Time Clock, Volatile, 1 Timer(s), CMOS, PDSO8; Manufacturer: Maxim; Package Body Material: Plastic; Number of Timers/Counters: 1; Max Supply Voltage: 5.5V; Min Supply Voltage: 4.5V; Nominal Supply Voltage: 5V; Clock Frequency: 32kHz; Package Equivalence Code: SOP8,.25; Qualification Status: Not Qualified; Supplier: Digikey; Supplier Part Number: DS1307Z+-ND; Manufacturer Part Number: DS1307Z+; RoHS: Yes; Category: Real Time Clocks; Stock: 5076; Pricing: 1=5.05, 10=4.535, 25=4.2868, 100=3.7153, 300=3.5248, 500=3.16278, 1000=2.66741, 2500=2.53404 (USD); Case/Package: SOP; Pins: 8; Package Shape: Rectangular; Terminal Finish: Tin; Min Operating Temperature: 0°C; Max Operating Temperature: 70°C; JESD-30 Code: R-PDSO-G8; Package Style: SMALL OUTLINEMeter; Surface Mount: Yes; Technology: CMOS; Terminal Form: Gull Wing; Terminal Position: DUAL; JESD-609 Code: e3; Moisture Sensitivity Level: 1; Peak Reflow Temperature (Cel): 260°C; Power Supplies: 5V; Length: 4.9mm; Width: 3.9mm; Height - Seated (Max): 1.75mm; Terminal Pitch: 1.27mm; Temperature Grade: COMMERCIAL; Reach SVHC Compliant: Yes; RoHS Compliant: Yes; ComponentLink1URL: https://datasheet.ciiva.com:443/pdfs/VipMasterIC/IC/MAXM/MAXM-S-A0000633411/MAXM-S-A0000664014-1.pdf?src-supplier=IHS+Markit; ComponentLink1Description: https://datasheet.ciiva.com:443/pdfs/VipMasterIC/IC/MAXM/MAXM-S-A0000633411/MAXM-S-A0000664014-1.pdf?src-supplier=IHS+Markit; ComponentLink2URL: https://datasheet.ciiva.com/14085/ds1307-14085608.pdf?src-supplier=Digikey; ComponentLink2Description: https://datasheet.ciiva.com/14085/ds1307-14085608.pdf?src-supplier=Digikey; ComponentLink3URL: https://datasheet.ciiva.com/1498/ds1307-1498866.pdf?src-supplier=Farnell; ComponentLink3Description: https://datasheet.ciiva.com/1498/ds1307-1498866.pdf?src-supplier=Farnell; ComponentLink4URL: https://datasheet.ciiva.com/3304/ds1307-3304457.pdf?src-supplier=Avnet; ComponentLink4Description: https://datasheet.ciiva.com/3304/ds1307-3304457.pdf?src-supplier=Avnet; ComponentLink5URL: https://datasheet.ciiva.com/14577/70127931-14577227.pdf?src-supplier=Allied+Electronics; ComponentLink5Description: https://datasheet.ciiva.com/14577/70127931-14577227.pdf?src-supplier=Allied+Electronics; ComponentLink6URL: https://datasheet.ciiva.com/1491/ds1307-1491905.pdf?src-supplier=Element14; ComponentLink6Description: https://datasheet.ciiva.com/1491/ds1307-1491905.pdf?src-supplier=Element14; ComponentLink7URL: https://datasheet.ciiva.com/1139/46359-1139142.pdf?src-supplier=Element14; ComponentLink7Description: https://datasheet.ciiva.com/1139/46359-1139142.pdf?src-supplier=Element14; Supplier 1: Digikey; Supplier Part Number 1: DS1307Z+-ND
footprint DS1307+
pins: 1 X1 (oc), 2 X2 (oc), 3 VBAT (oc), 4 GND (oc), 5 SDA (oc), 6 SCL (oc), 7 SQW/OUT (oc), 8 VCC (oc)

## FDN340P
designator Q?
Small Signal Field-Effect Transistor, 2A I(D), 20V, 1-Element, P-Channel, Silicon, Metal-oxide Semiconductor FET; Manufacturer: ON Semiconductor / Fairchild; Package Body Material: Plastic; Number of Elements: 1; Drain-source On Resistance-Max: 70R; Operating Mode: ENHANCEMENT MODE; Power Dissipation-Max (Abs): 500mW; Transistor Application: SWITCHING; Qualification Status: Not Qualified; Supplier 1: Digikey; Supplier Part Number 1: FDN340PCT-ND; Supplier: Digikey; Supplier Part Number: FDN340PCT-ND; Manufacturer Part Number: FDN340P; RoHS: Yes; Category: MOSFETs; Stock: 82276; Pricing: 1=0.46, 10=0.355, 100=0.213, 500=0.1972, 1000=0.1341, 3000=0.12345, 6000=0.11832, 9000=0.10649, 30000=0.10491, 75000=0.0986 (USD); Pins: 3; Package Shape: Rectangular; Transistor Element Material: SILICON; Terminal Finish: Tin; Max Operating Temperature: 150°C; JESD-30 Code: R-PDSO-G3; Moisture Sensitivity Level: 1; Package Style: SMALL OUTLINEMeter; Surface Mount: Yes; Terminal Form: Gull Wing; Terminal Position: DUAL; Polarity/Channel Type: P-CHANNEL; Drain Current-Max (Abs) (ID): 2A; Drain Current-Max (ID): 2A; DS Breakdown Voltage-Min: 20V; FET Technology: METAL-OXIDE SEMICONDUCTOR; JESD-609 Code: e3; Reach SVHC Compliant: Yes; RoHS Compliant: Yes; ComponentLink1URL: https://datasheet.ciiva.com:443/pdfs/VipMasterIC/IC/ONSM/ONSM-S-A0003584711/ONSM-S-A0003584686-1.pdf?src-supplier=IHS+Markit; ComponentLink1Description: https://datasheet.ciiva.com:443/pdfs/VipMasterIC/IC/ONSM/ONSM-S-A0003584711/ONSM-S-A0003584686-1.pdf?src-supplier=IHS+Markit
footprint FDN340P (P-Channel 20 V 2A (Ta) 500mW (Ta) Surface Mount SOT-23-3)
pins: 1 G, 2 S, 3 D

## FNGEPO002_2048MHz
designator XT?
CMOS Output Clock Oscillator, 2.048MHz Nom; Manufacturer: Diodes; Package Body Material: Ceramic; Fall Time-Max: 7ns; Frequency Adjustment-Mechanical: No; Frequency Stability: 50%; Operating Frequency-Nom: 2.048; Output Load: 15pF; Power Supplies: 3.3V; Rise Time-Max: 7ms; Max Supply Current: 15mA; Symmetry-Max: 55/45%; Package Equivalence Code: DILCC4,.2,200; Max Supply Voltage: 3.63V; Min Supply Voltage: 2.97V; Qualification Status: Not Qualified; Supplier 1: Arrow Electronics; Supplier Part Number 1: FNGEPO002; Supplier: Digikey; Supplier Part Number: FNGEPO002CT-ND; Manufacturer Part Number: FNGEPO002; RoHS: Yes; Category: Oscillators; Stock: 1792; Pricing: 1=1.17, 10=1.114, 50=1.088, 100=0.9326, 500=0.90672 (USD); Mounting Technology: Surface Mount; Pins: 4; Terminal Finish: Gold; Min Operating Temperature: -20°C; Max Operating Temperature: 70°C; JESD-609 Code: e4; Oscillator Type: CMOS; Nominal Supply Voltage: 3.3V; Manufacturer Series: FNGEPO002; Reach SVHC Compliant: Yes; RoHS Compliant: Yes; ComponentLink1URL: https://datasheet.ciiva.com:443/pdfs/VipMasterIC/IC/PERI/PERIS03856/PERIS03856-1.pdf?src-supplier=IHS+Markit; ComponentLink1Description: https://datasheet.ciiva.com:443/pdfs/VipMasterIC/IC/PERI/PERIS03856/PERIS03856-1.pdf?src-supplier=IHS+Markit; ComponentLink2URL: https://datasheet.ciiva.com/868/fngepo002-868273.pdf?src-supplier=Digikey; ComponentLink2Description: https://datasheet.ciiva.com/868/fngepo002-868273.pdf?src-supplier=Digikey; ComponentLink3URL: https://datasheet.ciiva.com/16439/fngepo002-rev-f-16439191.pdf?src-supplier=Future+Electronics; ComponentLink3Description: https://datasheet.ciiva.com/16439/fngepo002-rev-f-16439191.pdf?src-supplier=Future+Electronics; ComponentLink4URL: https://datasheet.ciiva.com/868/fngepo002-868274.pdf?src-supplier=Digikey; ComponentLink4Description: https://datasheet.ciiva.com/868/fngepo002-868274.pdf?src-supplier=Digikey; ComponentLink5URL: https://datasheet.ciiva.com/868/fngepo002-868275.pdf?src-supplier=Digikey; ComponentLink5Description: https://datasheet.ciiva.com/868/fngepo002-868275.pdf?src-supplier=Digikey
footprint FNGEPO002
pins: 1, 2, 3 OUT, 4 VCC
text: GND; OE

## Inductor 2.2n
designator L?, comment 2.2n 1%
General Purpose Inductor, 0.0022uH, 4.545%, 1 Element, SMD, 0402; Manufacturer: Murata; Manufacturer Part Number: LQG15HS2N2B02D; DC Resistance (DCR): 90mR; Inductor Application: RF INDUCTOR; Channels: 1; Quality Factor-Min (at L-nom): 8; Max Current Rating: 900mA; Self Resonant Frequency: 6GHz; Shape/Size Description: RECTANGULAR PACKAGE; Shielding: Unshielded; Test Frequency: 100MHz; Supplier: Digikey; Supplier Part Number: 490-LQG15HS2N2B02DCT-ND; RoHS: Yes; Category: Fixed Inductors; Stock: 10334; Pricing: 1=0.1, 10=0.064, 25=0.058, 50=0.0538, 100=0.0498, 250=0.04508, 500=0.04178, 1000=0.03871, 2500=0.035 (USD); Pins: 2; Terminal Finish: Tin; Min Operating Temperature: -55°C; Max Operating Temperature: 125°C; Tolerance: 4.545%; JESD-609 Code: e3; Inductance-Nom (L): 0.0022uH; Inductor Type: GENERAL PURPOSE INDUCTOR; Surface Mount: Yes; Terminal Placement: Dual Ended; Termination: Wraparound; Reach SVHC Compliant: Yes; RoHS Compliant: Yes; ComponentLink1URL: https://psearch.en.murata.com:443/inductor/product/LQG15HS2N2B02_.pdf?src-supplier=IHS+Markit; ComponentLink1Description: https://psearch.en.murata.com:443/inductor/product/LQG15HS2N2B02_.pdf?src-supplier=IHS+Markit
footprint 0402(1005) L
pins: 1, 2

## Inductor 2.7n
designator L?, comment 2.7n
General Purpose Inductor, 0.0027uH, 11.111%, 1 Element, Air-Core, SMD, 0402; Manufacturer: Murata; Manufacturer Part Number: LQG15HS2N7S02D; Core Material: Air; Case/Size Code: 0402; DC Resistance (DCR): 120mR; Inductor Application: RF INDUCTOR; Channels: 1; Quality Factor-Min (at L-nom): 8; Max Current Rating: 800mA; Self Resonant Frequency: 6GHz; Shape/Size Description: RECTANGULAR PACKAGE; Shielding: Unshielded; Test Frequency: 100MHz; Package Height: 0.5mm; Package Length: 1mm; Supplier: Digikey; Supplier Part Number: 490-2615-1-ND; RoHS: Yes; Category: Fixed Inductors; Stock: 90500; Pricing: 1=0.1, 10=0.045, 25=0.0408, 50=0.0362, 100=0.0316, 250=0.03012, 500=0.02832, 1000=0.02169, 2500=0.02049 (USD); Pins: 2; Terminal Finish: Nickel; Min Operating Temperature: -55°C; Max Operating Temperature: 125°C; Tolerance: 11.111%; JESD-609 Code: e3; Termination: Wraparound; Construction: Multilayer Chip; Inductance-Nom (L): 0.0027uH; Inductor Type: GENERAL PURPOSE INDUCTOR; Package Style: SMTMeter; Packaging: Tape and Reel; Surface Mount: Yes; Terminal Placement: Dual Ended; Package Width: 0.5mm; RoHS Compliant: Yes; Reach SVHC Compliant: Yes; ComponentLink1URL: https://datasheet.ciiva.com:443/pdfs/VipMasterIC/IC/MURE/MURE-S-A0004224658/MURE-S-A0004278201-1.pdf?src-supplier=IHS+Markit; ComponentLink1Description: https://datasheet.ciiva.com:443/pdfs/VipMasterIC/IC/MURE/MURE-S-A0004224658/MURE-S-A0004278201-1.pdf?src-supplier=IHS+Markit; ComponentLink2URL: https://datasheet.ciiva.com/11801/0900766b8090d685-11801391.pdf?src-supplier=Rs; ComponentLink2Description: https://datasheet.ciiva.com/11801/0900766b8090d685-11801391.pdf?src-supplier=Rs; ComponentLink3URL: https://datasheet.ciiva.com/1038/l0075s0083lqg15hs-1038151.pdf?src-supplier=Digikey; ComponentLink3Description: https://datasheet.ciiva.com/1038/l0075s0083lqg15hs-1038151.pdf?src-supplier=Digikey; ComponentLink4URL: https://datasheet.ciiva.com/1038/l0075s0083lqg15hs-1038153.pdf?src-supplier=Digikey; ComponentLink4Description: https://datasheet.ciiva.com/1038/l0075s0083lqg15hs-1038153.pdf?src-supplier=Digikey; ComponentLink5URL: https://datasheet.ciiva.com/1038/l0075s0083lqg15hs-1038152.pdf?src-supplier=Digikey; ComponentLink5Description: https://datasheet.ciiva.com/1038/l0075s0083lqg15hs-1038152.pdf?src-supplier=Digikey
footprint 0402(1005) L
pins: 1, 2

## Inductor 3.3n
designator L?, comment 3.3n 1%
General Purpose Inductor, 0.0033uH, 9.091%, 1 Element, Air-Core, SMD, 0402; Manufacturer: Murata; Manufacturer Part Number: LQG15HS3N3S02D; Core Material: Air; Case/Size Code: 0402; DC Resistance (DCR): 125mR; Inductor Application: RF INDUCTOR; Channels: 1; Quality Factor-Min (at L-nom): 8; Max Current Rating: 800mA; Self Resonant Frequency: 6GHz; Shape/Size Description: RECTANGULAR PACKAGE; Shielding: Unshielded; Test Frequency: 100MHz; Package Height: 0.5mm; Package Length: 1mm; Supplier: Digikey; Supplier Part Number: 490-2616-1-ND; RoHS: Yes; Category: Fixed Inductors; Stock: 49001; Pricing: 1=0.1, 10=0.046, 25=0.042, 50=0.0388, 100=0.036, 250=0.03256, 500=0.03016, 1000=0.02795, 2500=0.02528 (USD); Pins: 2; Terminal Finish: Nickel; Min Operating Temperature: -55°C; Max Operating Temperature: 125°C; Tolerance: 9.091%; JESD-609 Code: e3; Construction: Multilayer Chip; Inductance-Nom (L): 0.0033uH; Inductor Type: GENERAL PURPOSE INDUCTOR; Package Style: SMTMeter; Packaging: Tape and Reel; Surface Mount: Yes; Terminal Placement: Dual Ended; Termination: Wraparound; Package Width: 0.5mm; Reach SVHC Compliant: Yes; RoHS Compliant: Yes; ComponentLink1URL: https://datasheet.ciiva.com:443/pdfs/VipMasterIC/IC/MURE/MURE-S-A0004278247/MURE-S-A0004278708-1.pdf?src-supplier=IHS+Markit; ComponentLink1Description: https://datasheet.ciiva.com:443/pdfs/VipMasterIC/IC/MURE/MURE-S-A0004278247/MURE-S-A0004278708-1.pdf?src-supplier=IHS+Markit; ComponentLink2URL: https://datasheet.ciiva.com/11799/0900766b8090d685-11799072.pdf?src-supplier=Rs; ComponentLink2Description: https://datasheet.ciiva.com/11799/0900766b8090d685-11799072.pdf?src-supplier=Rs; ComponentLink3URL: https://datasheet.ciiva.com/1038/l0075s0083lqg15hs-1038143.pdf?src-supplier=Digikey; ComponentLink3Description: https://datasheet.ciiva.com/1038/l0075s0083lqg15hs-1038143.pdf?src-supplier=Digikey; ComponentLink4URL: https://datasheet.ciiva.com/1038/l0075s0083lqg15hs-1038142.pdf?src-supplier=Digikey; ComponentLink4Description: https://datasheet.ciiva.com/1038/l0075s0083lqg15hs-1038142.pdf?src-supplier=Digikey; ComponentLink5URL: https://datasheet.ciiva.com/4976/o05e-4976661.pdf?src-supplier=Mouser; ComponentLink5Description: https://datasheet.ciiva.com/4976/o05e-4976661.pdf?src-supplier=Mouser; ComponentLink6URL: https://datasheet.ciiva.com/26821/getdatasheetpartid-200403-26821446.pdf?src-supplier=Verical; ComponentLink6Description: https://datasheet.ciiva.com/26821/getdatasheetpartid-200403-26821446.pdf?src-supplier=Verical; ComponentLink7URL: https://datasheet.ciiva.com/1038/l0075s0083lqg15hs-1038144.pdf?src-supplier=Digikey; ComponentLink7Description: https://datasheet.ciiva.com/1038/l0075s0083lqg15hs-1038144.pdf?src-supplier=Digikey
footprint 0402(1005) L
pins: 1, 2